# Altium schematic symbol library IRLML0030TRPBF.SchLib: 1 symbol
Pins are listed as number, name and electrical type; pins without a type are passive.

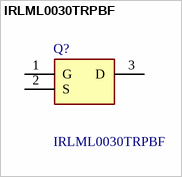
[diagram p0: symbol IRLML0030TRPBF]

## IRLML0030TRPBF
designator Q?
INFINEON - IRLML0030TRPBF - MOSFET, N CH, 30V, 5.3A, SOT23-3; Geometry.Height: 1.12mm; Mouser Part Number: 942-IRLML0030TRPBF; Mouser Price/Stock: https://www.mouser.co.uk/ProductDetail/Infineon-Technologies/IRLML0030TRPBF?qs=9%252BKlkBgLFf0lLJi3xz1alg%3D%3D; Manufacturer_Name: Infineon; Manufacturer_Part_Number: IRLML0030TRPBF; Datasheet Link: http://www.infineon.com/dgdl/irlml0030pbf.pdf?fileId=5546d462533600a401535664773825df
footprint SOT95P237X112-3N
pins: 1 G, 2 S, 3 D